# Altium footprint library PCB_Library.PcbLib: 37 footprints (part 2 of 3)
Each footprint in its own frame and in the unit in brackets; x right, y up, seen from the top. Pads: shape width x height; smd on the part's side, far side on the other; paste and mask are expansions set on the pad; w line width, h text height; cw(c..) or ccw(c..) is an arc to the next point about the centre after c.
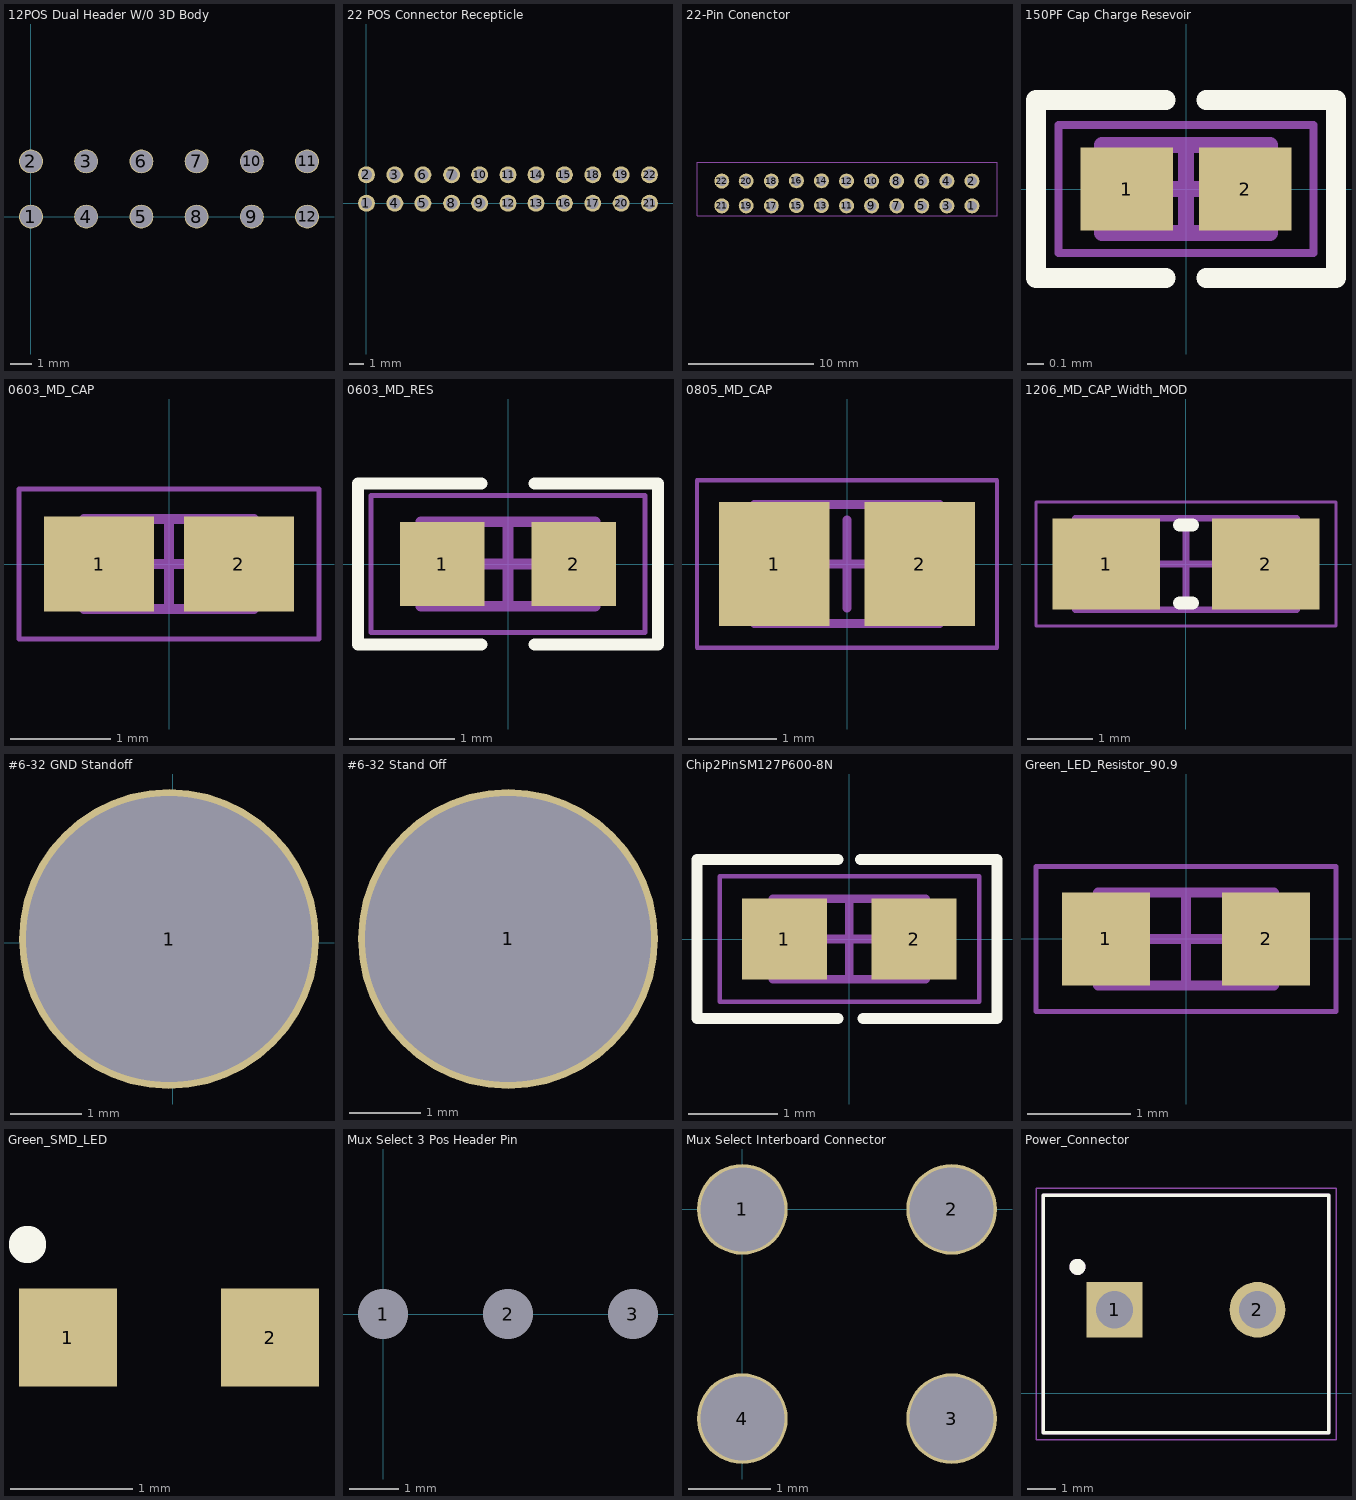
[diagram p1: the footprints below, top view; thin cyan lines are the x and y axes]

## 12POS Dual Header W/0 3D Body [mm]
pads (12):
  round 1.1 hole 1.02: 1(0,0) 2(0,2.54) 3(2.54,2.54) 4(2.54,0) 5(5.08,0) 6(5.08,2.54) 7(7.62,2.54) 8(7.62,0) 9(10.16,0) 10(10.16,2.54) 11(12.7,2.54) 12(12.7,0)

## 22 POS Connector Recepticle [mm]
pads (22):
  round 1.2 hole 0.8: 1(0,0) 2(0,2.007) 3(2.007,2.007) 4(2.007,0) 5(3.988,0) 6(3.988,2.007) 7(6.02,2.007) 8(6.02,0) 9(8.001,0) 10(8.001,2.007) 11(10.008,2.007) 12(10.008,0) 13(11.989,0) 14(11.989,2.007) 15(13.995,2.007) 16(13.995,0) 17(16.002,0) 18(16.002,2.007) 19(18.009,2.007) 20(18.009,0) 21(20.015,0) 22(20.015,2.007)
3D body "DF11-22DS-2DSA.stp": height 5.8, standoff -3.4, extent -1.953,-1.535 22.047,3.465

## 22-Pin Conenctor [mm]
pads (22):
  round 1.2 hole 0.8: 1(-330.632,342.494) 2(-330.632,344.475) 3(-332.638,342.494) 4(-332.638,344.475) 5(-334.645,342.494) 6(-334.645,344.475) 7(-336.652,342.494) 8(-336.652,344.475) 9(-338.658,342.494) 10(-338.658,344.475) 11(-340.665,342.494) 12(-340.665,344.475) 13(-342.671,342.519) 14(-342.671,344.5) 15(-344.678,342.519) 16(-344.678,344.5) 17(-346.685,342.494) 18(-346.685,344.475) 19(-348.691,342.494) 20(-348.691,344.475) 21(-350.647,342.494) 22(-350.647,344.475)
Mechanical 1:
  lines w0.025: -328.629,345.97 -352.628,345.998 -352.628,341.684 -328.629,341.684 -328.629,345.998
3D body "DF11-22DP-2DS.stp": height 5.06, standoff -2.94, extent -352.639,342.189 -328.639,352.189

## 150PF Cap Charge Resevoir [mm] "Charge Res Caps for ADC Input Channels"
height 0.55
pads (2):
  rect 0.58x0.52 smd: 1(-0.37,0) 2(0.37,0)
Top Overlay:
  lines w0.125: -0.127,-0.559 -0.94,-0.559 -0.94,0.559 -0.381,0.559 -0.127,0.559 ; 0.127,-0.559 0.94,-0.559 0.94,0.559 0.127,0.559
Mechanical 13:
  lines w0.1: -0.525,-0.275 -0.525,0.275 0.525,0.275 0.525,-0.275 -0.525,-0.275
Mechanical 15:
  lines w0.05: -0.8,-0.4 -0.8,0.4 0.8,0.4 0.8,-0.4 -0.8,-0.4
  lines w0.1: -0.275,0 0.275,0 ; 0,-0.275 0,0.275
3D body "150PF Cap Charge Resevoir.step": height 0.55, standoff 0, extent -0.525,-0.275 0.525,0.275

## 0603_MD_CAP [mm]
height 0.9
pads (2):
  rect 1.1x0.95 smd: 1(-0.7,0) 2(0.7,0)
Assembly Top:
  lines w0.1: -0.85,-0.45 0.85,-0.45 0.85,0.45 -0.85,0.45 -0.85,-0.45
Courtyard Top:
  lines w0.05: -1.5,-0.75 1.5,-0.75 1.5,0.75 -1.5,0.75 -1.5,-0.75
  lines w0.1: -0.45,0 0.45,0 ; 0,-0.45 0,0.45
3D body "0603_MD_CAP.step": height 0.9, standoff 0, extent -0.85,-0.45 0.85,0.45

## 0603_MD_RES [mm]
height 0.55
pads (2):
  rect 0.8x0.8 smd: 1(-0.625,0) 2(0.625,0)
Top Overlay:
  lines w0.115: -0.254,-0.762 -1.422,-0.762 -1.422,0.762 -0.254,0.762 ; 0.254,-0.762 1.422,-0.762 1.422,0.762 0.254,0.762
Mechanical 13:
  lines w0.1: -0.825,-0.4 0.825,-0.4 0.825,0.4 -0.825,0.4 -0.825,-0.4
Mechanical 15:
  lines w0.05: -1.3,-0.65 1.3,-0.65 1.3,0.65 -1.3,0.65 -1.3,-0.65
  lines w0.1: -0.4,0 0.4,0 ; 0,-0.4 0,0.4
3D body "0603_MD_RES.step": height 0.55, standoff 0, extent -0.825,-0.4 0.825,0.4

## 0805_MD_CAP [mm]
height 1.35
pads (2):
  rect 1.25x1.4 smd: 1(-0.825,0) 2(0.825,0)
Assembly Top:
  lines w0.1: -1.05,-0.675 -1.05,0.675 1.05,0.675 1.05,-0.675 -1.05,-0.675
Courtyard Top:
  lines w0.05: -1.7,-0.95 -1.7,0.95 1.7,0.95 1.7,-0.95 -1.7,-0.95
  lines w0.1: -0.5,0 0.5,0 ; 0,-0.5 0,0.5
3D body "0805_MD_CAP.step": height 1.35, standoff 0, extent -1.05,-0.675 1.05,0.675

## 1206_MD_CAP_Width_MOD [mm]
height 1.8
pads (2):
  rect 1.65x1.4 smd: 1(-1.225,0) 2(1.225,0)
Top Overlay:
  lines w0.2: -0.1,-0.6 0.1,-0.6 ; -0.1,0.6 0.1,0.6
Assembly Top:
  lines w0.1: -1.7,-0.7 -1.7,0.7 1.7,0.7 1.7,-0.7 -1.7,-0.7
Courtyard Top:
  lines w0.05: -2.3,-0.95 -2.3,0.95 2.3,0.95 2.3,-0.95 -2.3,-0.95
  lines w0.1: -0.5,0 0.5,0 ; 0,-0.5 0,0.5
3D body "1206_MD_CAP.step": height 1.8, standoff 0, extent -1.7,-0.7 1.7,0.7

## #6-32 GND Standoff [mm] "Hex standoff for Thermistor GND PCB"
pads (1):
  round 4.2 hole 4: 1(-0.051,0.051)
3D body "2102-632-AL-7.stp": height 9.53, standoff 0, extent -3.073,-3.608 3.277,3.709

## #6-32 Stand Off [mm]
pads (1):
  round 4.2 hole 4: 1(-10.262,-30.658)
3D body "2102T-632-AL.stp": height 10.32, standoff 0, extent -13.92,-33.833 -6.603,-27.483

## Chip2PinSM127P600-8N [mm] "75 Ohm Charge Resevoir Resistor"
height 0.55
pads (2):
  rect 0.95x0.9 smd: 1(-0.725,0) 2(0.725,0)
Top Overlay:
  lines w0.125: -0.127,-0.889 -1.702,-0.889 -1.702,0.889 -0.127,0.889 ; 0.127,0.889 1.651,0.889 1.651,-0.889 0.152,-0.889
Mechanical 13:
  lines w0.1: -0.85,-0.45 0.85,-0.45 0.85,0.45 -0.85,0.45 -0.85,-0.45
Mechanical 15:
  lines w0.05: -1.45,-0.7 1.45,-0.7 1.45,0.7 -1.45,0.7 -1.45,-0.7
  lines w0.1: -0.45,0 0.45,0 ; 0,-0.45 0,0.45
3D body "Chip2PinSM127P600-8N.step": height 0.55, standoff 0, extent -0.85,-0.45 0.85,0.45

## Green_LED_Resistor_90.9 [mm]
height 0.55
pads (2):
  rect 0.85x0.9 smd: 1(-0.775,0) 2(0.775,0)
Mechanical 13:
  lines w0.1: -0.85,-0.45 -0.85,0.45 0.85,0.45 0.85,-0.45 -0.85,-0.45
Mechanical 15:
  lines w0.05: -1.45,-0.7 -1.45,0.7 1.45,0.7 1.45,-0.7 -1.45,-0.7
  lines w0.1: -0.45,0 0.45,0 ; 0,-0.45 0,0.45
3D body "Green_LED_Resistor_90.9.step": height 0.55, standoff 0, extent -0.85,-0.45 0.85,0.45

## Green_SMD_LED [mm]
pads (2):
  rect 0.8x0.8 smd: 1(8.788,-1.626) 2(10.439,-1.626)
Top Overlay:
  circle w0.254: c8.458,-0.864 r0.025
3D body "0603_single.stp": height 0.71, standoff -0.01, extent 8.788,-2.019 10.414,-1.232

## Mux Select 3 Pos Header Pin [mm]
pads (3):
  round 1 hole 1.02: 1(0,0) 2(2.54,0) 3(5.08,0)
3D body "PH1RA-03-UA.STEP": height 5.77, standoff -3.4, extent -1.194,-7.255 6.433,1.245

## Mux Select Interboard Connector [mm]
pads (4):
  round 1.1 hole 1.02 unplated: 1(0,0) 2(2.54,0) 3(2.54,-2.54) 4(0,-2.54)
3D body "929710-06-02.STEP": height 10.04, standoff -17.99, extent -1.245,-4.039 3.835,1.421

## Power_Connector [mm]
pads (2):
  rect 1.95x1.95 hole 1.3: 1(20.36,2.921)
  round 1.95 hole 1.3: 2(25.36,2.921)
Top Overlay:
  circle w0.28: c19.06,4.421 r0.14
  lines w0.127: 17.86,-1.379 27.86,-1.379 27.86,6.921 17.86,6.921 17.86,-1.379
Mechanical 4:
  circle w0.28: c19.06,4.421 r0.14
  circle w0.28: c19.06,4.421 r0.14
  lines w0.127: 17.86,-1.379 17.86,6.921 ; 17.86,-1.379 27.86,-1.379 ; 17.86,-1.379 17.86,6.921 ; 17.86,-1.379 27.86,-1.379 ; 17.86,6.921 27.86,6.921 ; 17.86,6.921 27.86,6.921 ; 27.86,-1.379 27.86,6.921 ; 27.86,-1.379 27.86,6.921
Mechanical 16:
  lines w0.05: 17.61,-1.629 28.11,-1.629 28.11,7.171 17.61,7.171 17.61,-1.629
3D body "1935161--3DModel-STEP-56544.STEP": height 11.41, standoff -3.48, extent 17.889,-2.134 28.289,6.866